# Altium footprint library Кнопки.PcbLib: 23 footprints (part 1 of 2)
Each footprint in its own frame and in the unit in brackets; x right, y up, seen from the top. Pads: shape width x height; smd on the part's side, far side on the other; paste and mask are expansions set on the pad; w line width, h text height; cw(c..) or ccw(c..) is an arc to the next point about the centre after c.
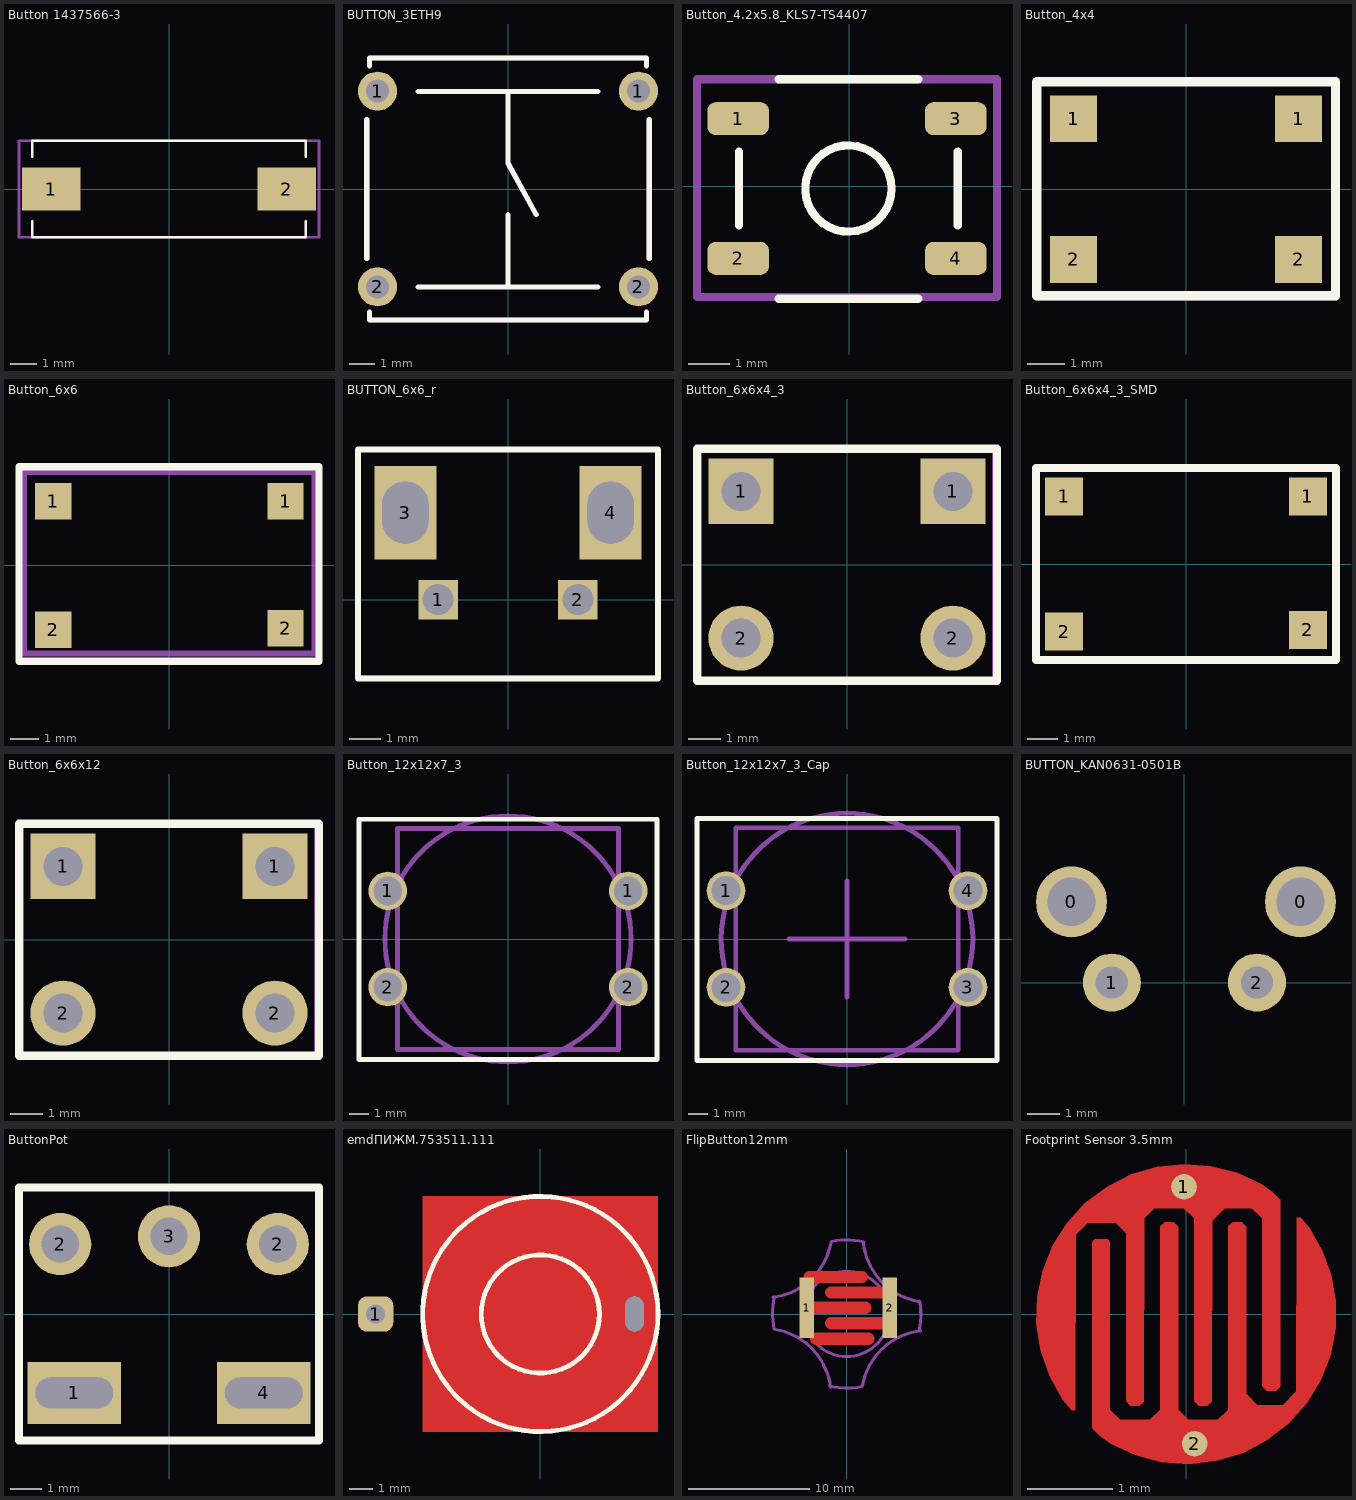
[diagram p0: the footprints below, top view; thin cyan lines are the x and y axes]

## Button 1437566-3 [mm]
pads (2):
  rect 2.18x1.6 smd: 1(-4.4,0) 2(4.4,0)
Top Overlay:
  lines w0.1: -5.1,-1.2 -5.1,-1.8 5.1,-1.8 5.1,-1.2 ; -5.1,1.2 -5.1,1.8 5.1,1.8 5.1,1.2
Top Assy:
  lines w0.1: -5.6,-1.8 5.6,-1.8 5.6,1.8 -5.6,1.8 -5.6,-1.8
  text ".Designator" at -2.9,-0.3 h1.52
3D body "1437566-3.stp": height 4.4, standoff -0.02, extent -4.984,-1.75 4.984,1.75

## BUTTON_3ETH9 [mil]
pads (4):
  round 60 hole 35.43: 1(-200,150) 1(200,150) 2(-200,-150) 2(200,-150)
Top Overlay:
  lines w7.87: -216.54,-106.3 -216.54,106.3 ; -212.6,-188.98 -212.6,-200.79 212.6,-200.79 212.6,-188.98 ; -212.6,188.98 -212.6,200.79 212.6,200.79 212.6,188.98 ; -137.8,-150 137.8,-150 ; -137.8,149.61 137.8,149.61 ; 0,-149.61 0,-39.37 ; 0,149.61 0,39.37 43.31,-39.37 ; 216.54,-106.3 216.54,106.3
Top Assy:
  lines w7.87: -216.54,-106.3 -216.54,106.3 ; -212.6,-188.98 -212.6,-200.79 212.6,-200.79 212.6,-188.98 ; -212.6,188.98 -212.6,200.79 212.6,200.79 212.6,188.98 ; 216.54,-106.3 216.54,106.3
  text ".Designator" at -137.8,-11.81 h60
3D body "Кнопка 3ETH9.stp": height 314.96, standoff -118.11, extent -210.63,-198.82 210.63,198.82

## Button_4.2x5.8_KLS7-TS4407 [mm]
pads (4):
  rrect50% 1.5x0.8 smd: 1(-2.7,1.642) 2(-2.7,-1.758) 3(2.6,1.642) 4(2.6,-1.758)
Top Overlay:
  circle w0.2: c-0.015,-0.058 r1.05
  lines w0.2: -2.676,-0.958 -2.676,0.842 ; -1.715,-2.74 1.685,-2.74 ; -1.715,2.598 1.685,2.598 ; 2.646,-0.958 2.646,0.842
Top Assy:
  lines w0.2: -3.7,-2.7 -3.7,2.6 3.6,2.6 3.6,-2.7 -3.7,-2.7
  text ".Designator" at -2,-0.4 h1.52
Mechanical 13:
  circle w0.1: c-0.015,-0.058 r1.05
3D body "KLS7-TS4407-1.5-180.stp": height 1.5, standoff 0, extent -3.1,-2.3 2.7,2.2

## Button_4x4 [mil]
pads (4):
  rect 50x50 smd: 1(-120,75) 1(120,75) 2(-120,-75) 2(120,-75)
Top Overlay:
  lines w10: -159.37,-113.98 -159.37,114.37 159.53,114.37 159.53,-113.98 -159.37,-113.98
Top Assy:
  lines w7.87: -160,-115 -160,115 160,115 160,-115 -160,-115
  text ".Designator" at -144.25,-63.82 h60
3D body "User Library-button11_5mm.STEP": height 59.06, standoff 0, extent -125,-104.33 127.07,104.33

## Button_6x6 [mm]
pads (4):
  rect 1.27x1.27 smd: 1(-4.064,2.25) 1(4.064,2.25) 2(-4.064,-2.25) 2(4.064,-2.195)
Top Overlay:
  lines w0.254: -5.264,-3.35 -5.264,3.45 5.236,3.45 5.236,-3.35 -5.264,-3.35
Top Assy:
  lines w0.2: -5.08,-3.084 5.08,-3.084 5.08,3.266 -5.08,3.266 -5.08,-3.084
  text ".Designator" at -4.934,-2.038 h1.52
3D body "User Library-KFC-A06-HA-4_3.STEP": height 4.3, standoff 0, extent -4.452,-2.957 4.548,3.043

## BUTTON_6x6_r [mm]
pads (4):
  rect 1.27x1.27 hole 1: 1(-2.25,0) 2(2.25,0)
  rect 2x3 hole 1.5 slot 2 at 90 deg: 3(-3.302,2.794) 4(3.302,2.794)
Top Overlay:
  lines w0.2: -4.826,-2.54 -4.826,4.826 4.826,4.826 4.826,-2.54 -4.826,-2.54
Top Assy:
  lines w0.1: -4.8,-2.5 4.8,-2.5 4.8,4.8 -4.8,4.8 -4.8,-2.5
  text ".Designator" at -1.5,-0.1 h1.52
3D body "User Library-TS-A6PV-130.STEP": height 7.45, standoff -3.45, extent -3.7,-11.486 3.7,4.064

## Button_6x6x4_3 [mm]
pads (4):
  rect 2x2 hole 1.2: 1(-3.25,2.25) 1(3.25,2.25)
  round 2 hole 1.2: 2(-3.25,-2.25) 2(3.25,-2.25)
Top Overlay:
  lines w0.254: -4.6,-3.556 4.6,-3.556 4.6,3.556 -4.6,3.556 -4.6,-3.556
Top Assy:
  lines w0.1: -4.5,-3.5 -4.5,3.6 4.5,3.6 4.5,-3.5 -4.5,-3.5
  text ".Designator" at -1.5,-0.1 h1.52
3D body "button 6x6x4_3.stp": height 4.3, standoff -3, extent -3.667,-3 3.667,3

## Button_6x6x4_3_SMD [mm]
pads (4):
  rect 1.27x1.27 smd: 1(-4.064,2.25) 1(4.064,2.25) 2(-4.064,-2.25) 2(4.064,-2.195)
Top Overlay:
  lines w0.254: -5,-3.2 5,-3.2 5,3.2 -5,3.2 -5,-3.2
Top Assy:
  lines w0.2: -5,-3.2 -5,3.2 5,3.2 5,-3.2 -5,-3.2
  text ".Designator" at -2,-0.4 h1.52
3D body "button 6x6x4_3_SMD.stp": height 4.3, standoff 0, extent -4.3,-3 4.3,3

## Button_6x6x12 [mm]
pads (4):
  rect 2x2 hole 1.2: 1(-3.25,2.25) 1(3.25,2.25)
  round 2 hole 1.2: 2(-3.25,-2.25) 2(3.25,-2.25)
Top Overlay:
  lines w0.254: -4.6,-3.556 4.6,-3.556 4.6,3.556 -4.6,3.556 -4.6,-3.556
Top Assy:
  lines w0.1: -4.5,-3.5 -4.5,3.6 4.5,3.6 4.5,-3.5 -4.5,-3.5
  text ".Designator" at -2.3,-0.2 h1.52
3D body "button_6x6x12_holl.STEP": height 12, standoff -3.5, extent -3.95,-3 3.7,3

## Button_12x12x7_3 [mm]
pads (4):
  round 2 hole 1.5: 1(-6.25,2.5) 1(6.25,2.5) 2(-6.25,-2.5) 2(6.25,-2.5)
Top Overlay:
  lines w0.254: -7.75,-6.275 -7.75,6.225 7.75,6.225 7.75,-6.275 -7.725,-6.275
Top Assy:
  lines w0.1: -7.7,-6.2 7.7,-6.2 7.7,6.2 -7.7,6.2 -7.7,-6.2
  text ".Designator" at -1.5,-0.1 h1.52
Mechanical 13:
  circle w0.254: c0,0 r6.4
  lines w0.254: -5.75,-5.75 -5.75,5.75 5.75,5.75 5.75,-5.75 -5.75,-5.75
Mechanical 15:
  lines w0.1: -7.8,-6.3 -7.8,6.3 7.8,6.3 7.8,-6.3 -7.8,-6.3
3D body "User Library-Button 12x12x7_3.STEP": height 7, standoff -2.7, extent -7.025,-5.875 6.825,6.025

## Button_12x12x7_3_Cap [mm]
pads (4):
  round 2 hole 1.5: 1(-6.25,2.5) 2(-6.25,-2.5) 3(6.25,-2.5) 4(6.25,2.5)
Top Overlay:
  lines w0.254: -7.75,-6.275 -7.75,6.225 7.75,6.225 7.75,-6.275 -7.725,-6.275
Mechanical 13:
  circle w0.254: c0,0 r6.5
  lines w0.254: -5.75,-5.75 -5.75,5.75 5.75,5.75 5.75,-5.75 -5.75,-5.75
Mechanical 15:
  lines w0.254: -3,0 3,0 ; 0,-3 0,3
3D body "Кнопка с колпачком.STEP": height 12.7, standoff -2.7, extent -6.925,-6.5 6.925,6.5

## BUTTON_KAN0631-0501B [mm]
pads (4):
  round 2.2 hole 1.5: 0(-3.5,2.5) 0(3.6,2.5)
  round 1.8 hole 1: 1(-2.25,0) 2(2.25,0)
3D body "tc-1102hj-a-a.stp": height 7, standoff -3.7, extent -4.227,-3.2 4.227,4.01

## ButtonPot [mm]
pads (5):
  rect 3x2 hole 1 slot 2.5 at 0 deg: 1(-3.048,-2.54) 4(3.048,-2.54)
  round 2 hole 1.2: 2(-3.5,2.25) 2(3.5,2.25) 3(0,2.5)
Top Overlay:
  lines w0.254: -4.826,-4.064 -4.826,4.064 4.826,4.064 4.826,-4.064 -4.826,-4.064
Top Assy:
  lines w0.1: -4.8,-4.1 -4.8,4.1 4.8,4.1 4.8,-4.1 -4.8,-4.1
  text ".Designator" at -1.5,-0.1 h1.52
3D body: height 5, standoff 0, extent -3.81,-3.81 3.81,3.81
3D body "button_6x6x12_holl.STEP": height 12, standoff -3.5, extent -3.89,-3.086 3.76,2.914

## emdПИЖМ.753511.111 [mm]
pads (2):
  rrect50% 0x0 hole 0.8 slot 1.5 at 90 deg unplated: 0(4,0)
  rrect50% 1.5x1.5 hole 0.8: 1(-7,0)
Top Layer:
  pour cut-out: 5,5 -5,5 -5,-5 5,-5
Top Overlay:
  circle w0.203: c0,0 r5
  circle w0.203: c0,0 r2.511
Top Assy:
  circle w0.203: c0,0 r5
  lines w0.1: -0.25,0 0.25,0 ; 0,-0.25 0,0.25
  text ".Designator" at -3.775,2.35 h1.52
3D body "emdПИЖМ.753511.111.stp": height 20.78, standoff -2.35, extent -7.175,-4.196 4.261,4.196

## FlipButton12mm [mm]
pads (2):
  rect 1.2x5 smd: 1(-3.302,0.508) 2(3.556,0.508)
Top Layer:
  lines w1: -3.048,3.048 1.27,3.048 ; -2.794,0.508 1.524,0.508 ; -2.54,-2.032 1.778,-2.032 ; -1.27,-0.762 3.048,-0.762 ; -1.27,1.778 3.048,1.778
Bottom Solder:
  rectangle: -3.81,-3.556 4.064,3.81
Mechanical 15:
  circle w0.254: c0,0 r3.5
  lines w0.254: -6.072,1.38 ccw(c-6.715,6.842) -1.298,5.891 ; -5.972,-1.244 cw(c0,0) -5.934,1.413 ; -5.842,-1.27 cw(c-6.793,-6.687) -1.33,-6.045 ; -1.413,-5.934 ccw(c0,0) 1.244,-5.972 ; -1.244,5.972 cw(c0,0) 1.413,5.934 ; 1.298,-5.891 cw(c6.715,-6.842) 6.072,-1.38 ; 1.38,5.818 ccw(c6.842,6.461) 5.891,1.044 ; 5.934,-1.413 ccw(c0,0) 6.007,1.064

## Footprint Sensor 3.5mm [mm]
pads (2):
  round 0.3 smd mask+0.05: 1(-0.025,1.493) 2(0.1,-1.524)
Top Layer:
  region: -1.345,-1.128 -1.3,-1.13 -1.294,0.931 -1.155,1.07 -0.827,1.07 -0.705,0.948 -0.705,-1.025 -0.654,-1.079 -0.55,-1.08 -0.496,-1.029 -0.495,1.123 -0.373,1.245 -0.027,1.245 0.095,1.123 0.095,-1.025 0.146,-1.079 0.25,-1.08 0.304,-1.029 0.305,1.098 0.452,1.245 0.773,1.245 0.895,1.123 0.895,-0.85 0.946,-0.904 1.05,-0.905 1.104,-0.854 1.105,1.34 1.016,1.431 0.887,1.523 0.599,1.657 0.292,1.738 -0.024,1.762 -0.34,1.729 -0.645,1.64 -0.929,1.498 -1.182,1.307 -1.398,1.073 -1.568,0.805 -1.687,0.511 -1.751,0.2 -1.758,-0.118 -1.709,-0.431 -1.604,-0.731 -1.447,-1.007
  region: -1.105,-1.34 -1.016,-1.431 -0.885,-1.524 -0.594,-1.659 -0.284,-1.739 0.037,-1.762 0.356,-1.726 0.663,-1.633 0.948,-1.486 1.202,-1.289 1.416,-1.05 1.583,-0.776 1.697,-0.476 1.755,-0.16 1.755,0 1.755,0.154 1.702,0.456 1.597,0.745 1.443,1.011 1.345,1.128 1.3,1.13 1.295,-0.909 1.134,-1.07 0.838,-1.07 0.705,-0.937 0.705,1.025 0.654,1.079 0.55,1.08 0.496,1.029 0.495,-1.123 0.373,-1.245 0.027,-1.245 -0.095,-1.123 -0.095,1.025 -0.146,1.079 -0.25,1.08 -0.304,1.029 -0.305,-1.123 -0.427,-1.245 -0.773,-1.245 -0.895,-1.123 -0.895,0.85 -0.921,0.879 -1.069,0.881 -1.104,0.847